# Altium integrated library op_amp.IntLib: 1 symbol
Pins are listed as number, name and electrical type; pins without a type are passive.

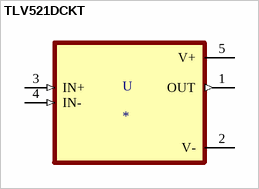
[diagram p0: symbol TLV521DCKT]

## TLV521DCKT
designator U
350-nA Nanopower, Single, RRIO, CMOS Input, Operational Amplifier for Cost-Sensitive Systems 5-SC70 -40 to 125; MF: Texas Instruments; MP: TLV521DCKT; DigiKey-Purchase-URL: https://snapeda.com/shop?store=DigiKey&id=809196; Package: SOT-SC70-5 Texas Instruments; Mouser-Purchase-URL: https://snapeda.com/shop?store=Mouser&id=809196; Value: *; Arrow_Electronics-Purchase-URL: https://snapeda.com/shop?store=Arrow+Electronics&id=809196; Texas_Instruments-Purchase-URL: https://snapeda.com/shop?store=Texas+Instruments&id=809196; SnapEDA_Link: https://www.snapeda.com/parts/TLV521DCKT/Texas%20Instruments/view-part/809196/?ref=snap; Availability: Unavailable; Price: None
footprint TLV521-SOT-5N (TLV521 NanoPower, 350nA, RRIO, CMOS Input, Operational Amplifier)
pins: 1 OUT (out), 2 V- (power), 3 IN+ (in), 4 IN- (in), 5 V+ (power)